# Altium integrated library 153.IntLib: 1 symbol
Pins are listed as number, name and electrical type; pins without a type are passive.

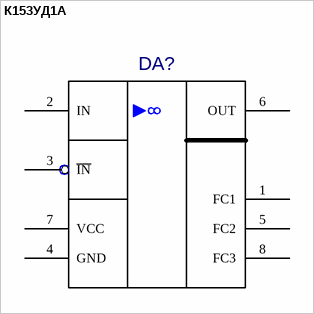
[diagram p0: symbol К153УД1А]

## К153УД1А
designator DA?  (value not drawn)
Value: *
footprint 301.8-2
pins: 1 FC1, 2 IN, 3 ~{IN}, 4 GND, 5 FC2, 6 OUT, 7 VCC, 8 FC3